# Altium integrated library LTC2990CMS_PBF.IntLib: 1 symbol
Pins are listed as number, name and electrical type; pins without a type are passive.

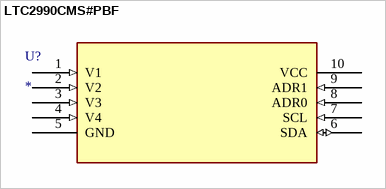
[diagram p0: symbol LTC2990CMS#PBF]

## LTC2990CMS#PBF
designator U?
Quad I2C Voltage, Current and Temperature Monitor; MP: LTC2990CMS#PBF; MF: Analog Devices; Price: None; Package: MSOP-10 Analog Devices; Value: *; Purchase-URL: https://pricing.snapeda.com/search/part/LTC2990CMS#PBF/?ref=eda; Availability: In Stock; Check_prices: https://www.snapeda.com/parts/LTC2990CMS%23PBF/Analog+Devices/view-part/?ref=eda; SnapEDA_Link: https://www.snapeda.com/parts/LTC2990CMS%23PBF/Analog+Devices/view-part/?ref=snap
footprint MSOP-10_MS
pins: 1 V1 (in), 2 V2 (in), 3 V3 (in), 4 V4 (in), 5 GND (power), 6 SDA (io), 7 SCL (in), 8 ADR0 (in), 9 ADR1 (in), 10 VCC (power)